# Altium footprint library Molex Microfit 2.0 3x2.PcbLib: 1 footprints
Each footprint in its own frame and in the unit in brackets; x right, y up, seen from the top. Pads: shape width x height; smd on the part's side, far side on the other; paste and mask are expansions set on the pad; w line width, h text height; cw(c..) or ccw(c..) is an arc to the next point about the centre after c.
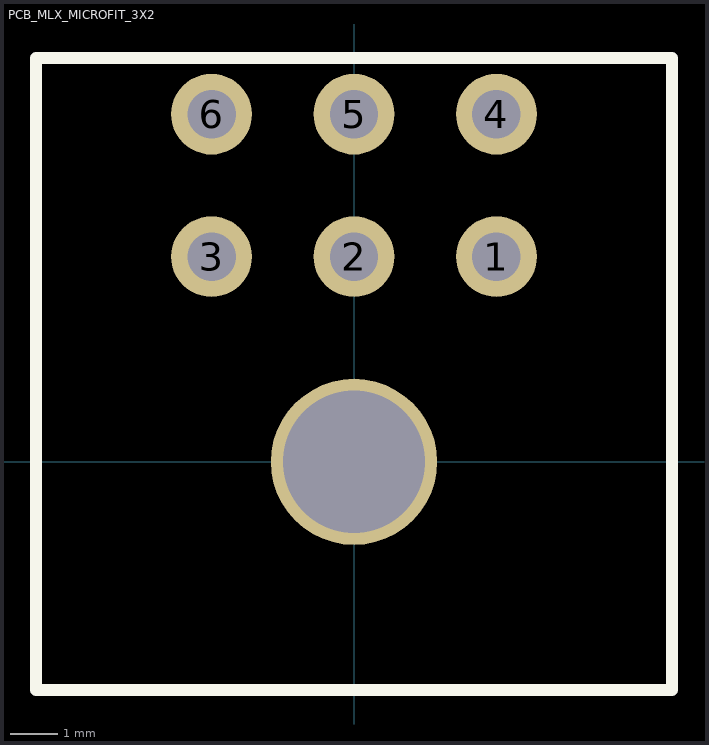
[diagram p0: the footprint, top view; thin cyan lines are the x and y axes]

## PCB_MLX_MICROFIT_3X2 [mm]
pads (7):
  round 1.7 hole 1.02: 1(3,4.32) 2(0,4.32) 3(-3,4.32) 4(3,7.32) 5(0,7.32) 6(-3,7.32)
  round 3.5 hole 3: ""(0,0)
Top Overlay:
  lines w0.254: -6.7,-4.8 -6.7,8.5 6.7,8.5 6.7,-4.8 -6.7,-4.8
3D body "MLX_MICROFIT_3X2.stp": height 8.83, standoff -3.12, extent -6.575,-4.65 6.575,7.59